# Altium schematic symbol library PCB_LED_CALENDAR.SCHLIB: 8 symbols
Pins are listed as number, name and electrical type; pins without a type are passive.

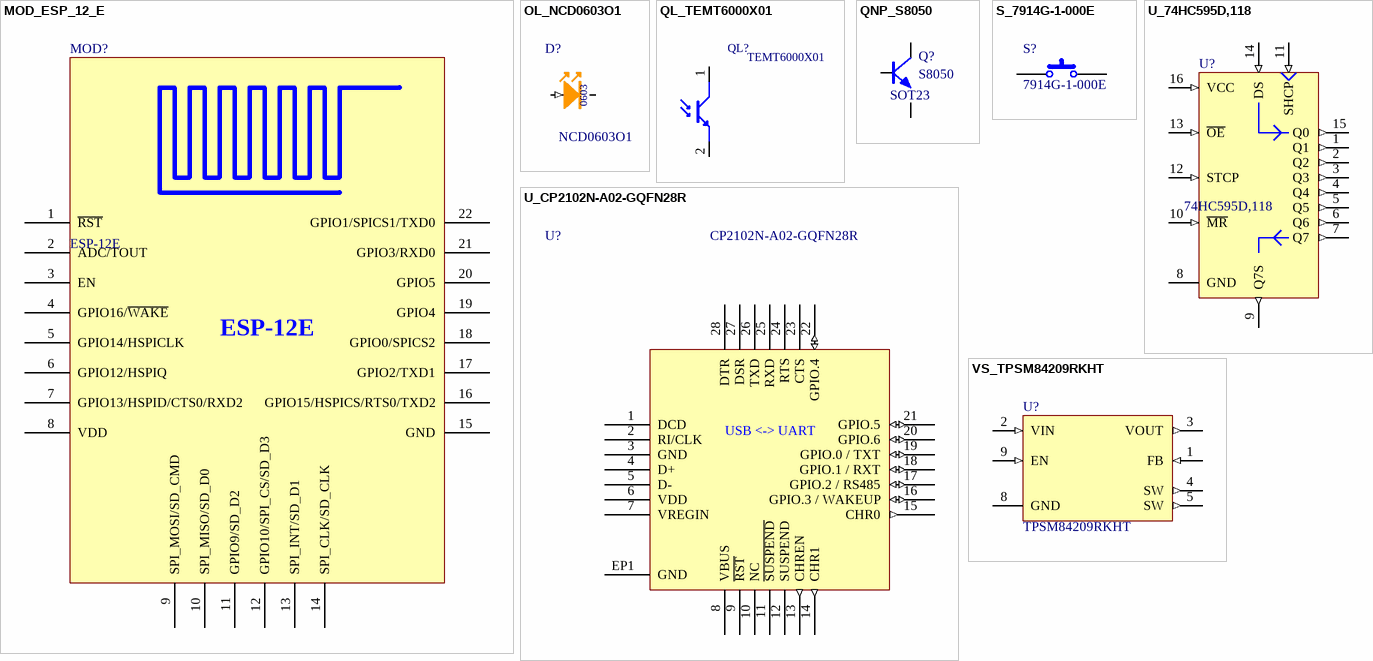
[diagram p0: symbols MOD_ESP_12_E to VS_TPSM84209RKHT]

## MOD_ESP_12_E
designator MOD?, comment ESP-12E
ESP-12E Wi-Fi Module by AI-Thinker; Manufacturer Part Number: ESP-12E; Manufacturer: Ai-thinker; Supplier 1: JLCPCB; Supplier Part Number 1: C89297
footprint ESP-12E
pins: 1 ~{RST} "Reset", 2 ADC/TOUT "ADC Input Or TOUT Output", 3 EN "Chip enable", 4 GPIO16/~{WAKE} "GPIO16 or Deep-Sleep Wakeup", 5 GPIO14/HSPICLK "GPIO14 or SPI CLK", 6 GPIO12/HSPIQ "GPIO12 or SPIQ", 7 GPIO13/HSPID/CTS0/RXD2 "GPIO13 or SPID", 8 VDD "Power supply", 9 SPI_MOSI/SD_CMD "GPIO14 or SPI CLK", 10 SPI_MISO/SD_D0 "GPIO12 or SPIQ", 11 GPIO9/SD_D2 "GPIO13 or SPID", 12 GPIO10/SPI_CS/SD_D3 "GPIO15 or SPICS", 13 SPI_INT/SD_D1 "GPIO2 or TX", 14 SPI_CLK/SD_CLK "GPIO0 or SPICS2", 15 GND "Power ground", 16 GPIO15/HSPICS/RTS0/TXD2 "GPIO15 or SPICS", 17 GPIO2/TXD1 "GPIO2 or TX", 18 GPIO0/SPICS2 "GPIO0 or SPICS2", 19 GPIO4 "GPIO5", 20 GPIO5 "GPIO4", 21 GPIO3/RXD0 "GPIO3 or UART RXD", 22 GPIO1/SPICS1/TXD0 "GPIO1 or UART TXD"

## OL_NCD0603O1
designator D?, comment NCD0603O1  SCH_Footprint: 0603
Orange 130° 65mW 1.6V~2.6V 0603; Manufacturer: Foshan NationStar Optoelectronics; Manufacturer Part Number: NCD0603O1; Supplier 1: JLCPCB; Supplier Part Number 1: C84269
footprint LED_0603
pins: 1 K (out), 2 A (in)
1 alternate drawing of the same symbol

## QL_TEMT6000X01
designator QL?, comment TEMT6000X01
1206 Ambient Light Sensors ROHS; Manufacturer: Vishay Intertech; Manufacturer Part Number: TEMT6000X01; Supplier 1: JLCPCB; Supplier Part Number 1: C94098
footprint TEMT6000X01
pins: 1, 2

## QNP_S8050
designator Q?, comment S8050  SCH_Footprint: SOT23
25V 300mW 500mA NPN SOT-23 Bipolar (BJT) ROHS; Manufacturer: FUXINSEMI; Manufacturer Part Number: S8050; Supplier 1: JLCPCB; Supplier Part Number 1: C908252
footprint SOT-23
pins: B, C, E

## S_7914G-1-000E
designator S?, comment 7914G-1-000E
Tact Switch; Manufacturer: BOURNS; Manufacturer Part Number: 7914G-1-000E; Supplier 1: JLCPCB; Supplier Part Number 1: C840653
footprint 7914G-1-000E (Tact Switch)
pins: 1, 2

## U_74HC595D,118
designator U?, comment 74HC595D,118
8-bit serial-in, serial or parallel-out shift register with output latches; 3-state; Manufacturer: Nexperia; Manufacturer Part Number: 74HC595D,118; Supplier 1: JLCPCB; Supplier Part Number 1: C5947
footprint SO16
pins: 1 Q1 (out) "Low bus output", 2 Q2 (out) "Low bus output", 3 Q3 (out) "Low bus output", 4 Q4 (out) "Low bus output", 5 Q5 (out) "Low bus output", 6 Q6 (out) "Low bus output", 7 Q7 (out) "Low bus output", 8 GND (power) "Ground", 9 Q7S (out) "Low bus output", 10 ~{MR} (in) "Low bus output", 11 SHCP (in) "Low bus output", 12 STCP (in) "Low bus output", 13 ~{OE} (in) "Low bus output", 14 DS (in) "Low bus output", 15 Q0 (out) "Low bus output", 16 VCC (in) "Low bus output"

## U_CP2102N-A02-GQFN28R
designator U?, comment CP2102N-A02-GQFN28R
USB to UART UART QFN-28-EP(5x5) USB Converters ROHS; Manufacturer: SKYWORKS/SILICON LABS; Manufacturer Part Number: CP2102N-A02-GQFN28R; Supplier 1: JLCPCB; Supplier Part Number 1: C964632
footprint QFN28
pins: 1 DCD, 2 RI/CLK, 3 GND, 4 D+, 5 D-, 6 VDD, 7 VREGIN, 8 VBUS, 9 ~{RST}, 10 NC, 11 ~{SUSPEND}, 12 SUSPEND, 13 CHREN (out), 14 CHR1 (out), 15 CHR0 (out), 16 GPIO.3 / WAKEUP (io), 17 GPIO.2 / RS485 (io), 18 GPIO.1 / RXT (io), 19 GPIO.0 / TXT (io), 20 GPIO.6 (io), 21 GPIO.5 (io), 22 GPIO.4 (io), 23 CTS, 24 RTS, 25 RXD, 26 TXD, 27 DSR, 28 DTR, EP1 GND
text: USB <-> UART

## VS_TPSM84209RKHT
designator U?, comment TPSM84209RKHT
4.5-V to 28-V Input, 1.2-V to 6-V Output, 2.5-A Power Module; Manufacturer: Texas Instruments; Manufacturer Part Number: TPSM84209RKHT; Supplier 1: *; Supplier Part Number 1: *
footprint QFN9_4.5x4
pins: 1 FB (in), 2 VIN (in), 3 VOUT (out), 4 SW (out), 5 SW (out), 6 DNC hidden, 7 DNC hidden, 8 GND (power), 9 EN (in)